# EAGLE library part MC9S08DV60-48 (library freescale-hcs08)
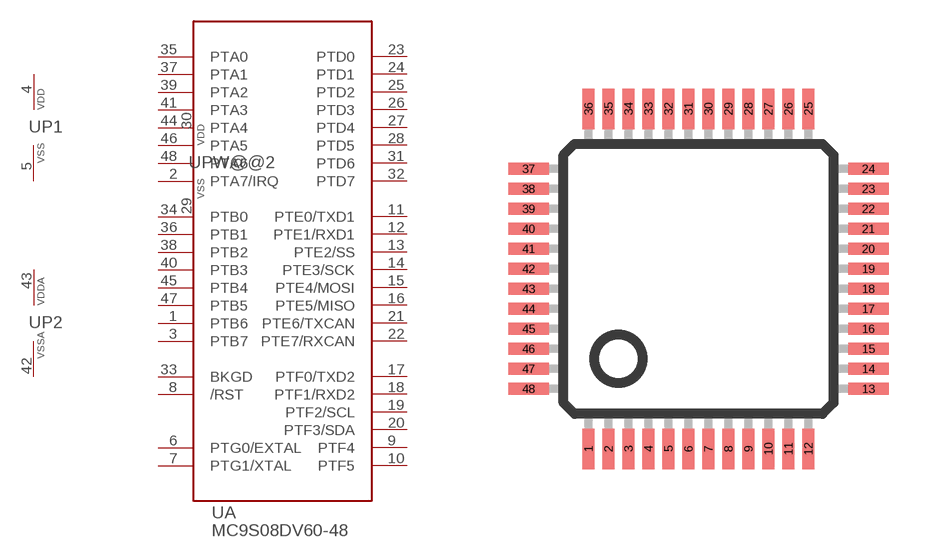
[diagram p6: symbol with the pads of LQFP48; footprint LQFP48]

Designator prefix -; gates A=MC9S08DV60-48 P2=VDDA-VSSA P1=VDD-VSS PW@@2=VDD-VSS

## MC9S08DV60-48  [LQFP48]
1  A:PTB6
2  A:PTA7/IRQ
3  A:PTB7
4  P1:VDD  pwr
5  P1:VSS  pwr
6  A:PTG0/EXTAL
7  A:PTG1/XTAL
8  A:/RST
9  A:PTF4
10  A:PTF5
11  A:PTE0/TXD1
12  A:PTE1/RXD1
13  A:PTE2/SS
14  A:PTE3/SCK
15  A:PTE4/MOSI
16  A:PTE5/MISO
17  A:PTF0/TXD2
18  A:PTF1/RXD2
19  A:PTF2/SCL
20  A:PTF3/SDA
21  A:PTE6/TXCAN
22  A:PTE7/RXCAN
23  A:PTD0
24  A:PTD1
25  A:PTD2
26  A:PTD3
27  A:PTD4
28  A:PTD5
29  PW@@2:VSS  pwr
30  PW@@2:VDD  pwr
31  A:PTD6
32  A:PTD7
33  A:BKGD
34  A:PTB0
35  A:PTA0
36  A:PTB1
37  A:PTA1
38  A:PTB2
39  A:PTA2
40  A:PTB3
41  A:PTA3
42  P2:VSSA  pwr
43  P2:VDDA  pwr
44  A:PTA4
45  A:PTB4
46  A:PTA5
47  A:PTB5
48  A:PTA6

## Footprint LQFP48 (pad centres in mm)
48-pin Low Profile Quad Flat Pack
smd 0.305 x 1.016: 1 -2.75,-4.25; 2 -2.25,-4.25; 3 -1.75,-4.25; 4 -1.25,-4.25; 5 -0.75,-4.25; 6 -0.25,-4.25; 7 0.25,-4.25; 8 0.75,-4.25; 9 1.25,-4.25; 10 1.75,-4.25; 11 2.25,-4.25; 12 2.75,-4.25; 25 2.75,4.25; 26 2.25,4.25; 27 1.75,4.25; 28 1.25,4.25; 29 0.75,4.25; 30 0.25,4.25; 31 -0.25,4.25; 32 -0.75,4.25; 33 -1.25,4.25; 34 -1.75,4.25; 35 -2.25,4.25; 36 -2.75,4.25
smd 1.016 x 0.305: 13 4.25,-2.75; 14 4.25,-2.25; 15 4.25,-1.75; 16 4.25,-1.25; 17 4.25,-0.75; 18 4.25,-0.25; 19 4.25,0.25; 20 4.25,0.75; 21 4.25,1.25; 22 4.25,1.75; 23 4.25,2.25; 24 4.25,2.75; 37 -4.25,2.75; 38 -4.25,2.25; 39 -4.25,1.75; 40 -4.25,1.25; 41 -4.25,0.75; 42 -4.25,0.25; 43 -4.25,-0.25; 44 -4.25,-0.75; 45 -4.25,-1.25; 46 -4.25,-1.75; 47 -4.25,-2.25; 48 -4.25,-2.75